# EAGLE library part BT_RN4871 (library Eagle_CAD_parts)
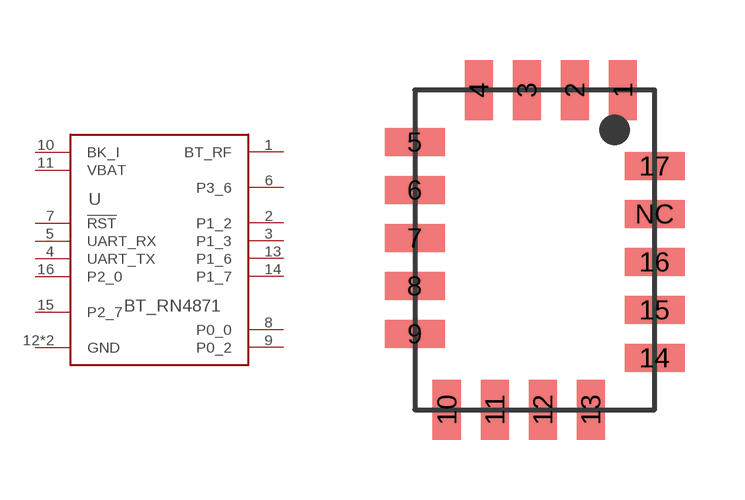
[diagram p45: symbol with the pads of BT_RN4871U; footprint BT_RN4871U]

Designator prefix -

## BT_RN4871_U (DIGIKEY_PART_NUMBER: RN4871U-V/RM118-ND)  [BT_RN4871U]
1  BT_RF
2  P1_2
3  P1_3
4  UART_TX
5  UART_RX
6  P3_6
7  !RST
8  P0_0
9  P0_2
10  BK_I
11  VBAT
12  GND
13  P1_6
14  P1_7
15  P2_7
16  P2_0
17  GND

## Footprint BT_RN4871U (pad centres in mm)
smd 0.7 x 1.5: 1 2.2,3.45; 2 1,3.45; 3 -0.2,3.45; 4 -1.4,3.45; 10 -2.2,-4.55; 11 -1,-4.55; 12 0.2,-4.55; 13 1.4,-4.55
smd 1.5 x 0.7: 5 -3,2.15; 6 -3,0.95; 7 -3,-0.25; 8 -3,-1.45; 9 -3,-2.65; 14 3,-3.25; 15 3,-2.05; 16 3,-0.85; 17 3,1.55; NC 3,0.35